# EAGLE library part 74HC4017PW (library ICs)
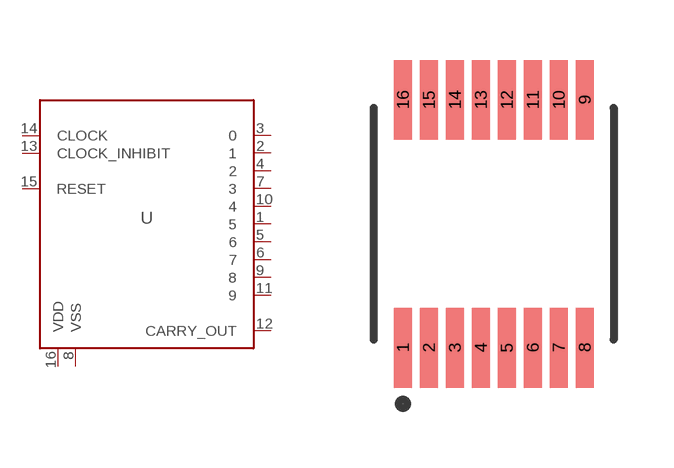
[diagram p38: symbol with the pads of TSSOP16; footprint TSSOP16]

Designator prefix U

## 74HC4017PW (MFG: Nexperia; PN: 74HCT4017PW)  [TSSOP16]
1  5  out
2  1  out
3  0  out
4  2  out
5  6  out
6  7  out
7  3  out
8  VSS  pwr
9  8  out
10  4  out
11  9  out
12  CARRY_OUT  out
13  CLOCK_INHIBIT  in
14  CLOCK  in
15  RESET  in
16  VDD  pwr

## Footprint TSSOP16 (pad centres in mm)
16-Lead Plastic Thin Shrink Small Outline (ST) - 4.4 mm Body TSSOP
smd 0.45 x 2: 1 -2.275,-3.1; 2 -1.625,-3.1; 3 -0.975,-3.1; 4 -0.325,-3.1; 5 0.325,-3.1; 6 0.975,-3.1; 7 1.625,-3.1; 8 2.275,-3.1; 9 2.275,3.1; 10 1.625,3.1; 11 0.975,3.1; 12 0.325,3.1; 13 -0.325,3.1; 14 -0.975,3.1; 15 -1.625,3.1; 16 -2.275,3.1